# Altium footprint library WS-SLSV.PcbLib: 3 footprints
Each footprint in its own frame and in the unit in brackets; x right, y up, seen from the top. Pads: shape width x height; smd on the part's side, far side on the other; paste and mask are expansions set on the pad; w line width, h text height; cw(c..) or ccw(c..) is an arc to the next point about the centre after c.
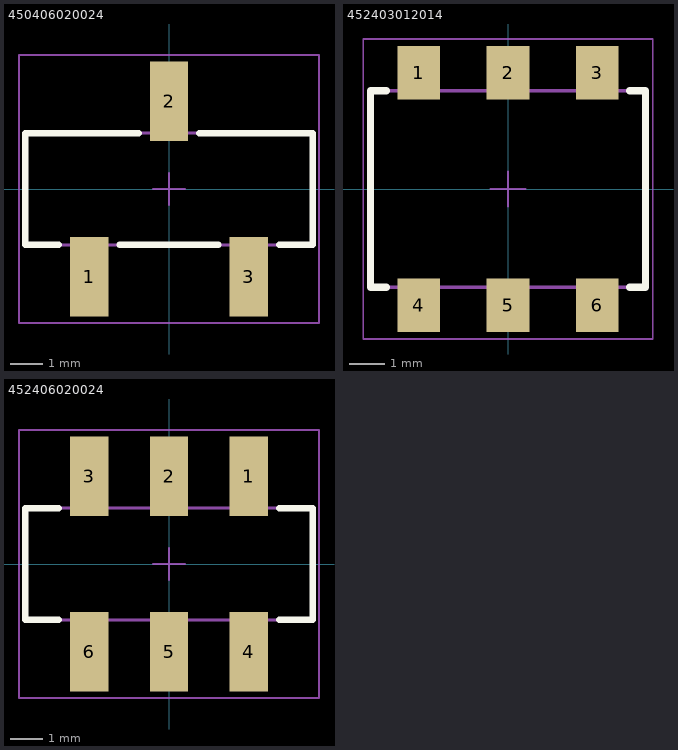
[diagram p0: the footprints below, top view; thin cyan lines are the x and y axes]

## 450406020024 [mm] "SMT Mini Slide Switch, Same Side Connection, body 9.00 x 3.50 mm"
height 5.5
pads (3):
  rect 1.2x2.5 smd: 1(-2.5,-2.75) 2(0,2.75) 3(2.5,-2.75)
Top Overlay:
  lines w0.2: -3.45,-1.75 -4.5,-1.75 -4.5,1.75 -0.95,1.75 ; -1.55,-1.75 1.55,-1.75 ; 0.95,1.75 4.5,1.75 4.5,-1.75 3.45,-1.75
Top Component Outline:
  lines w0.1: -2.8,-1.75 -2.8,-3.75 -2.2,-3.75 -2.2,-1.75 ; -0.3,1.75 -0.3,3.75 0.3,3.75 0.3,1.75 ; 2.2,-1.75 2.2,-3.75 2.8,-3.75 2.8,-1.75 ; -4.5,-1.75 4.5,-1.75 4.5,1.75 -4.5,1.75 -4.5,-1.75
Top Courtyard:
  lines w0.05: -4.7,-4.2 4.7,-4.2 4.7,4.2 -4.7,4.2 -4.7,-4.2
Top Component Center:
  lines w0.05: -0.5,0 0.5,0 ; 0,-0.5 0,0.5
Top Designator (Mech19):
  text ".Designator" at -7.498,-0.5 h1.5
3D body "450406020024.stp": height 5.5, standoff 0, extent -4.525,-3.75 4.525,3.75

## 452403012014 [mm] "SMT Mini Slide Switch, Same Side Connection"
height 3.3
pads (6):
  rect 1.2x1.5 smd: 1(-2.5,3.25) 2(0,3.25) 3(2.5,3.25) 4(-2.5,-3.25) 5(0,-3.25) 6(2.5,-3.25)
Top Overlay:
  lines w0.2: -3.4,-2.75 -3.85,-2.75 -3.85,2.75 -3.4,2.75 ; 3.4,-2.75 3.85,-2.75 3.85,2.75 3.4,2.75
Top Component Outline:
  lines w0.1: -2.8,-2.75 -2.8,-3.75 -2.2,-3.75 -2.2,-2.75 ; -2.8,2.75 -2.8,3.75 -2.2,3.75 -2.2,2.75 ; -0.3,-2.75 -0.3,-3.75 0.3,-3.75 0.3,-2.75 ; -0.3,2.75 -0.3,3.75 0.3,3.75 0.3,2.75 ; 2.2,-2.75 2.2,-3.75 2.8,-3.75 2.8,-2.75 ; 2.2,2.75 2.2,3.75 2.8,3.75 2.8,2.75 ; -3.85,-2.75 -3.85,2.75 3.85,2.75 3.85,-2.75 -3.85,-2.75
Top Courtyard:
  lines w0.05: -4.05,-4.2 4.05,-4.2 4.05,4.2 -4.05,4.2 -4.05,-4.2
Top Component Center:
  lines w0.05: -0.5,0 0.5,0 ; 0,-0.5 0,0.5
Top Designator (Mech19):
  text ".Designator" at -7.498,-0.5 h1.5
3D body "452403012014.stp": height 3.3, standoff 0, extent -3.85,-3.75 3.85,3.75

## 452406020024 [mm] "SMT Mini Slide Switch, Same Side Connection, body 9.00 x 3.50 mm"
height 5.5
pads (6):
  rect 1.2x2.5 smd: 1(2.5,2.75) 2(0,2.75) 3(-2.5,2.75) 4(2.5,-2.75) 5(0,-2.75) 6(-2.5,-2.75)
Top Overlay:
  lines w0.2: -3.45,-1.75 -4.5,-1.75 -4.5,1.75 -3.45,1.75 ; 3.45,-1.75 4.5,-1.75 4.5,1.75 3.45,1.75
Top Component Outline:
  lines w0.1: -2.8,-1.75 -2.8,-3.75 -2.2,-3.75 -2.2,-1.75 ; -2.8,1.75 -2.8,3.75 -2.2,3.75 -2.2,1.75 ; -0.3,-1.75 -0.3,-3.75 0.3,-3.75 0.3,-1.75 ; -0.3,1.75 -0.3,3.75 0.3,3.75 0.3,1.75 ; 2.2,-1.75 2.2,-3.75 2.8,-3.75 2.8,-1.75 ; 2.2,1.75 2.2,3.75 2.8,3.75 2.8,1.75 ; -4.5,-1.75 4.5,-1.75 4.5,1.75 -4.5,1.75 -4.5,-1.75
Top Courtyard:
  lines w0.05: -4.7,-4.2 4.7,-4.2 4.7,4.2 -4.7,4.2 -4.7,-4.2
Top Component Center:
  lines w0.05: -0.5,0 0.5,0 ; 0,-0.5 0,0.5
Top Designator (Mech19):
  text ".Designator" at -7.498,-0.5 h1.5
3D body "452406020024.stp": height 5.5, standoff 0, extent -4.525,-3.75 4.525,3.75